# Altium footprint library RES-2W.PcbLib: 1 footprints
Each footprint in its own frame and in the unit in brackets; x right, y up, seen from the top. Pads: shape width x height; smd on the part's side, far side on the other; paste and mask are expansions set on the pad; w line width, h text height; cw(c..) or ccw(c..) is an arc to the next point about the centre after c.
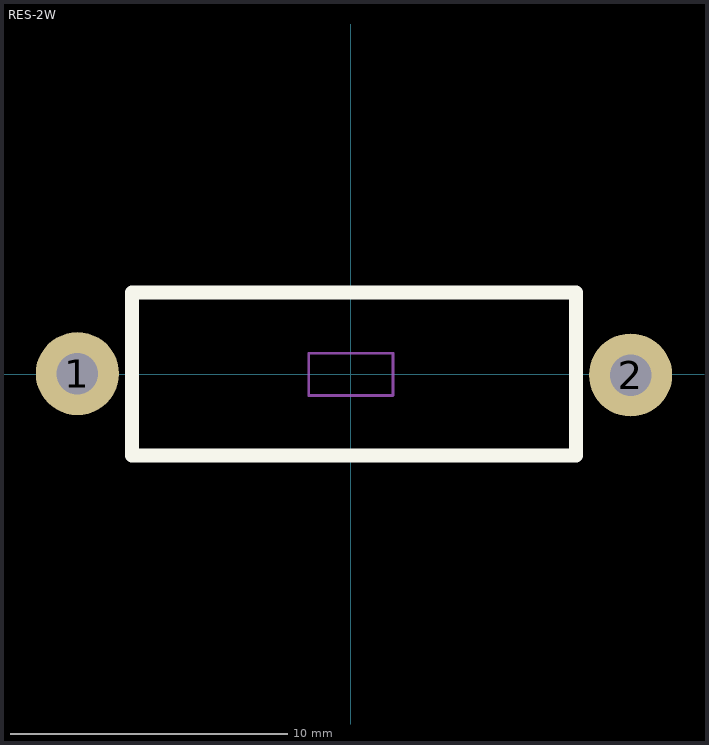
[diagram p0: the footprint, top view; thin cyan lines are the x and y axes]

## RES-2W [mm]
height 0.55
pads (2):
  round 3 hole 1.5: 1(-9.875,0.025) 2(10.1,-0.025)
Top Overlay:
  lines w0.2: -7.9,-2.925 8.125,-2.925 8.125,2.95 -7.9,2.95 -7.9,-2.925
  lines w0.5: -7.9,-2.925 8.125,-2.925 8.125,2.95 -7.9,2.95 -7.9,-2.925
Top Assembly:
  lines w0.1: -1.524,-0.762 1.524,-0.762 1.524,0.762 -1.524,0.762 -1.524,-0.762
  text "'.Designator'" at -0.975,-0.35 h0.7
3D body "STA_RSMF2_STP.step": height 5.59, standoff -2.79, extent -9.856,-2.791 10.006,2.791